# Altium schematic symbol library TPS7A24.SchLib: 1 symbol
Pins are listed as number, name and electrical type; pins without a type are passive.

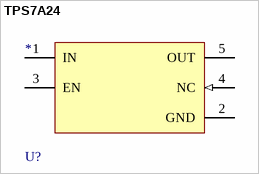
[diagram p0: symbol TPS7A24]

## TPS7A24
designator U?
pins: 1 IN, 2 GND (power), 3 EN (power), 4 NC (in), 5 OUT